# Altium schematic symbol library LTC4418.SchLib: 1 symbol
Pins are listed as number, name and electrical type; pins without a type are passive.

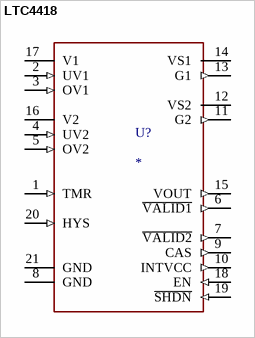
[diagram p0: symbol LTC4418]

## LTC4418
designator U?
Dual Channel Prioritized PowerPath Controller; MF: Analog Devices; MP: LTC4418IUF#PBF; Package: QFN -20 Analog Devices; Price: None; Check_prices: https://www.snapeda.com/parts/LTC4418IUF%23PBF/Analog+Devices/view-part/?ref=eda; Value: *; SnapEDA_Link: https://www.snapeda.com/parts/LTC4418IUF%23PBF/Analog+Devices/view-part/?ref=snap; Availability: In Stock; Purchase-URL: https://pricing.snapeda.com/search?q=LTC4418IUF#PBF&ref=eda
footprint QFN50P400X400X80-21N
pins: 1 TMR (in), 2 UV1 (in), 3 OV1 (in), 4 UV2 (in), 5 OV2 (in), 6 ~{VALID1} (out), 7 ~{VALID2} (out), 8 GND (power), 9 CAS (out), 10 INTVCC (out), 11 G2 (out), 12 VS2 (power), 13 G1 (out), 14 VS1 (power), 15 VOUT (out), 16 V2 (power), 17 V1 (power), 18 EN (in), 19 ~{SHDN} (in), 20 HYS (in), 21 GND (power)